# Altium footprint library SON65P300X300X95-8N.PcbLib: 1 footprints
Each footprint in its own frame and in the unit in brackets; x right, y up, seen from the top. Pads: shape width x height; smd on the part's side, far side on the other; paste and mask are expansions set on the pad; w line width, h text height; cw(c..) or ccw(c..) is an arc to the next point about the centre after c.
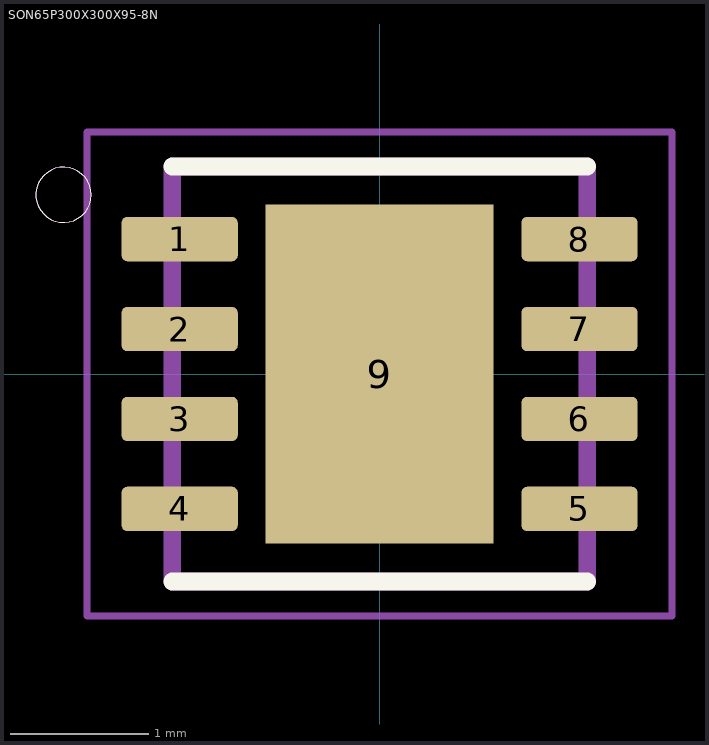
[diagram p0: the footprint, top view; thin cyan lines are the x and y axes]

## SON65P300X300X95-8N [mm]
pads (9):
  rrect25% 0.84x0.32 smd: 1(-1.445,0.975) 2(-1.445,0.325) 3(-1.445,-0.325) 4(-1.445,-0.975) 5(1.445,-0.975) 6(1.445,-0.325) 7(1.445,0.325) 8(1.445,0.975)
  rect 1.65x2.45 smd paste-2: 9(0,0)
Top Overlay:
  circle w0: c-2.285,1.295 r0.2
  lines w0.127: -1.5,-1.5 1.5,-1.5 ; -1.5,1.5 1.5,1.5
Top Paste:
  region: 0.413,-0.633 -0.427,-0.633 -0.427,0.613 0.413,0.613
Mechanical 13:
  circle w0: c-2.285,1.295 r0.2
  lines w0.127: -1.5,-1.5 -1.5,1.5 1.5,1.5 1.5,-1.5 -1.5,-1.5
Mechanical 15:
  lines w0.05: -2.115,-1.75 -2.115,1.75 2.115,1.75 2.115,-1.75 -2.115,-1.75